# Altium schematic symbol library 8088.SCHLIB: 24 symbols
Pins are listed as number, name and electrical type; pins without a type are passive.

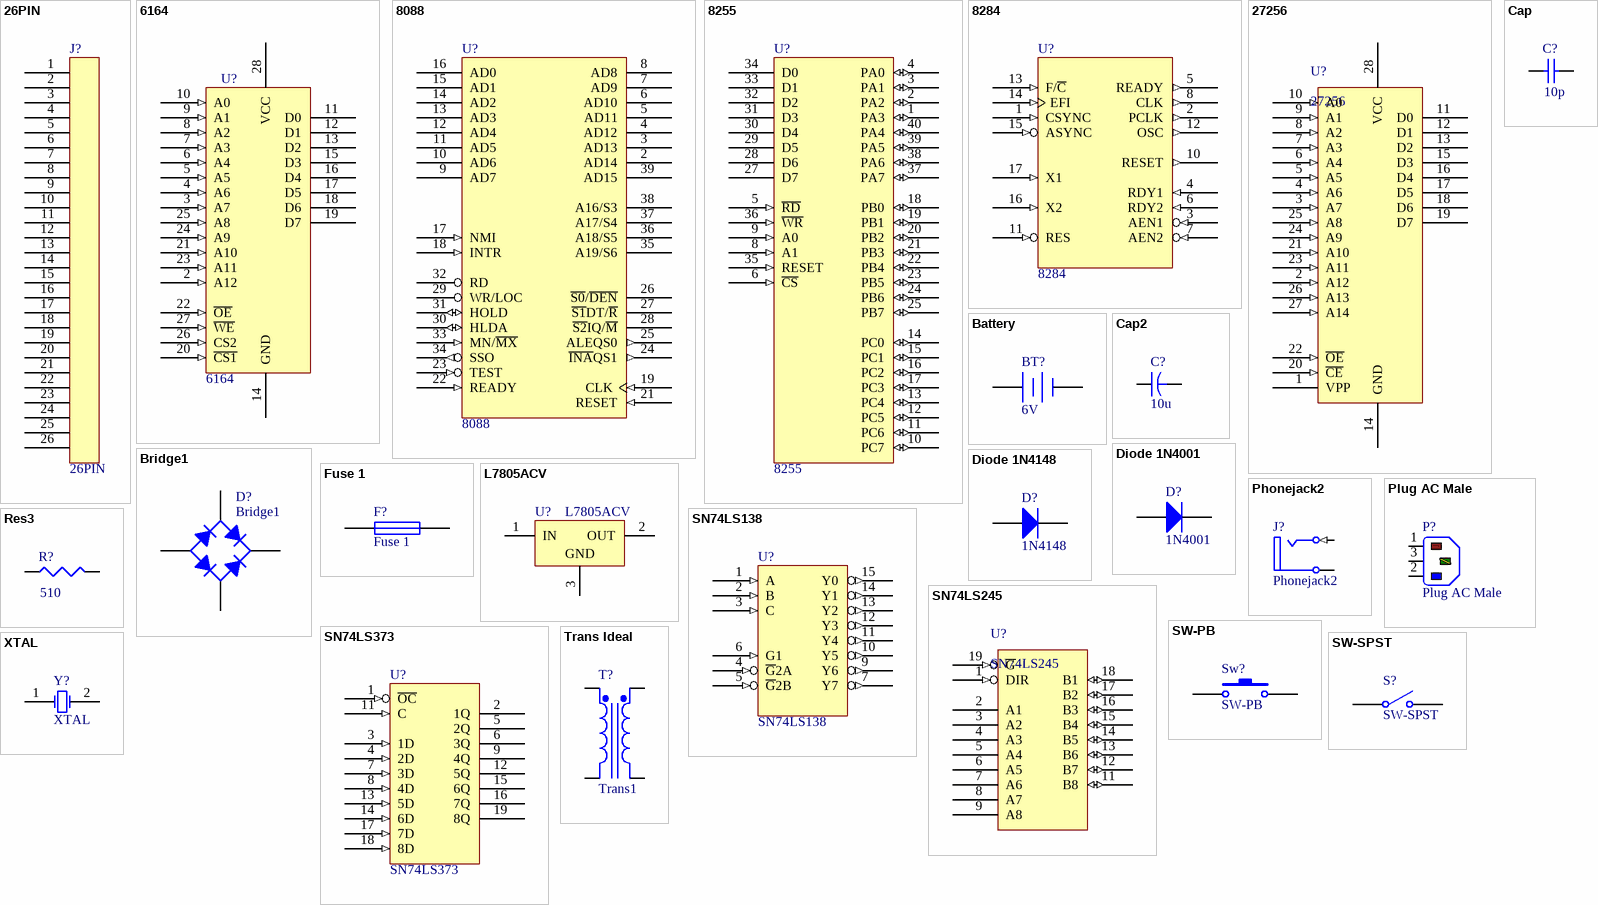
[diagram p0: symbols 26PIN to XTAL]

## 26PIN
designator J?
footprint IDC26 (Footprint not found)
pins: 1, 2, 3, 4, 5, 6, 7, 8, 9, 10, 11, 12, 13, 14, 15, 16, 17, 18, 19, 20, 21, 22, 23, 24, 25, 26

## 6164
designator U?
footprint DIP28 (Footprint not found)
pins: 2 A12 (in), 3 A7 (in), 4 A6 (in), 5 A5 (in), 6 A4 (in), 7 A3 (in), 8 A2 (in), 9 A1 (in), 10 A0 (in), 11 D0 (hiz), 12 D1 (hiz), 13 D2 (hiz), 14 GND, 15 D3 (hiz), 16 D4 (hiz), 17 D5 (hiz), 18 D6 (hiz), 19 D7 (hiz), 20 ~{CS1} (in), 21 A10 (in), 22 ~{OE} (in), 23 A11 (in), 24 A9 (in), 25 A8 (in), 26 CS2 (in), 27 ~{WE} (in), 28 VCC

## 8088
designator U?
footprint DIP40 (Footprint not found)
pins: 1 GND (power) hidden to GND, 2 AD14 (hiz), 3 AD13 (hiz), 4 AD12 (hiz), 5 AD11 (hiz), 6 AD10 (hiz), 7 AD9 (hiz), 8 AD8 (hiz), 9 AD7 (hiz), 10 AD6 (hiz), 11 AD5 (hiz), 12 AD4 (hiz), 13 AD3 (hiz), 14 AD2 (hiz), 15 AD1 (hiz), 16 AD0 (hiz), 17 NMI (in), 18 INTR (in), 19 CLK (in), 20 GND (power) hidden to GND, 21 RESET (in), 22 READY (in), 23 TEST (in), 24 ~{INA}QS1 (out), 25 ALEQS0 (out), 26 ~{S0}/~{DEN} (hiz), 27 ~{S1}DT/~{R} (hiz), 28 ~{S2}IQ/~{M} (hiz), 29 WR/LOC (hiz), 30 HLDA (io), 31 HOLD (io), 32 RD (hiz), 33 MN/~{MX} (in), 34 SSO (out), 35 A19/S6 (hiz), 36 A18/S5 (hiz), 37 A17/S4 (hiz), 38 A16/S3 (hiz), 39 AD15 (hiz), 40 VCC (power) hidden to VCC

## 8255
designator U?
footprint DIP40 (Footprint not found)
pins: 1 PA3 (io), 2 PA2 (io), 3 PA1 (io), 4 PA0 (io), 5 ~{RD} (in), 6 ~{CS} (in), 7 GND (power) hidden to GND, 8 A1 (in), 9 A0 (in), 10 PC7 (io), 11 PC6 (io), 12 PC5 (io), 13 PC4 (io), 14 PC0 (io), 15 PC1 (io), 16 PC2 (io), 17 PC3 (io), 18 PB0 (io), 19 PB1 (io), 20 PB2 (io), 21 PB3 (io), 22 PB4 (io), 23 PB5 (io), 24 PB6 (io), 25 PB7 (io), 26 VCC (power) hidden to VCC, 27 D7 (hiz), 28 D6 (hiz), 29 D5 (hiz), 30 D4 (hiz), 31 D3 (hiz), 32 D2 (hiz), 33 D1 (hiz), 34 D0 (hiz), 35 RESET (in), 36 ~{WR} (in), 37 PA7 (io), 38 PA6 (io), 39 PA5 (io), 40 PA4 (io)

## 8284
designator U?
footprint DIP18 (Footprint not found)
pins: 1 CSYNC (in), 2 PCLK (out), 3 AEN1 (in), 4 RDY1 (in), 5 READY (out), 6 RDY2 (in), 7 AEN2 (in), 8 CLK (out), 9 GND (power) hidden to GND, 10 RESET (out), 11 RES (in), 12 OSC (out), 13 F/~{C} (in), 14 EFI (in), 15 ASYNC (in), 16 X2 (in), 17 X1 (in), 18 VCC (power) hidden to VCC

## 27256
designator U?
footprint DIP28 (Footprint not found)
pins: 1 VPP (power), 2 A12 (in), 3 A7 (in), 4 A6 (in), 5 A5 (in), 6 A4 (in), 7 A3 (in), 8 A2 (in), 9 A1 (in), 10 A0 (in), 11 D0 (hiz), 12 D1 (hiz), 13 D2 (hiz), 14 GND (power), 15 D3 (hiz), 16 D4 (hiz), 17 D5 (hiz), 18 D6 (hiz), 19 D7 (hiz), 20 ~{CE} (in), 21 A10 (in), 22 ~{OE} (in), 23 A11 (in), 24 A9 (in), 25 A8 (in), 26 A13 (in), 27 A14 (in), 28 VCC (power)

## Battery
designator BT?, comment 6V
Multicell Battery; Published: 24-Mar-1999; LatestRevisionDate: 17-Jul-2002; LatestRevisionNote: Re-released for DXP Platform.; PackageReference: BAT-2; Publisher: Altium Limited
footprint BAT-2 (Multicell Battery; 2 Leads)
pins: 1 +, 2 -

## Bridge1
designator D?
Full Wave Diode Bridge; Published: 8-Jun-2000; LatestRevisionDate: 17-Jul-2002; LatestRevisionNote: Re-released for DXP Platform.; PackageReference: D-38; Publisher: Altium Limited
footprint D-38 (Bridge Rectifier; 4 Terminals; Body 9.4 x 9.4 mm (typ); Pitch 5.08 mm)
simulation model BRIDGE (Spice Subcircuit)
pins: 1 A, 2 C, 3 K, 4 C

## Cap
designator C?  value 10p  (hidden comment: Cap)
Capacitor; Published: 8-Jun-2000; LatestRevisionDate: 17-Jul-2002; LatestRevisionNote: Re-released for DXP Platform.; PackageReference: RAD-0.3; Publisher: Altium Limited
footprint RAD-0.3 (Capacitor; 2 Leads)
footprint VP32-3.2 (Capacitor, Ceramic, Thru-Hole, Dipped Radial; Body 5.1 x 3.2 mm (WxT) Pin Spacing 2.54 mm (typ))
footprint VP45-3.2 (Capacitor, Ceramic, Thru-Hole, Dipped Radial; Body 7.8 x 3.2 mm (WxT) Pin Spacing 5.08 mm (typ))
simulation model CAP (Capacitor)
signal-integrity model Cap
pins: 1, 2

## Cap2
designator C?  value 10u  (hidden comment: Cap2)
Capacitor; Published: 23-Sep-2002; PackageReference: CAPR5-4X5; Publisher: Altium Limited
footprint CAPR5-4X5 (Capacitor; 2 Leads)
simulation model CAP (Capacitor)
signal-integrity model Cap
pins: 1, 2

## Diode 1N4001
designator D?, comment 1N4001
1 Amp General Purpose Rectifier; Published: 8-Jun-2000; LatestRevisionDate: 17-Jul-2002; LatestRevisionNote: Re-released for DXP Platform.; DatasheetDocument: 1998; PackageDocument: Aug-1999; PackageReference: DO-41; Publisher: Altium Limited; Code_JEDEC: DO-204-AL; ComponentLink1Description: Manufacturer Link; ComponentLink1URL: http://www.fairchildsemi.com/; ComponentLink2Description: Datasheet; ComponentLink2URL: http://www.fairchildsemi.com/ds/1N%2F1N4001.pdf
footprint DO-41 (Diode, Axial; Body 5.2 x 2.7 mm (LxDia. max), Lead Dia. 0.86 mm (max))
simulation model 1N4001 (DIODE)
signal-integrity model 1N4001
pins: 1 A, 2 K

## Diode 1N4148
designator D?, comment 1N4148
High Conductance Fast Diode; Published: 8-Jun-2000; LatestRevisionDate: 17-Jul-2002; LatestRevisionNote: Re-released for DXP Platform.; DatasheetDocument: 1997; PackageReference: DO-35; Publisher: Altium Limited; Code_JEDEC: DO-204-AH; ComponentLink1Description: Manufacturer Link; ComponentLink1URL: http://www.fairchildsemi.com/; ComponentLink2Description: Datasheet; ComponentLink2URL: http://www.fairchildsemi.com/ds/1N%2F1N4148.pdf
footprint DO-35 (Diode, Axial; Body 3.8 x 1.9 mm (LxDia. max), Lead Dia. 0.53 mm (max))
simulation model 1N4148 (DIODE)
signal-integrity model 1N4148
pins: 1 A, 2 K

## Fuse 1
designator F?
Fuse; Published: 8-Jun-2000; LatestRevisionDate: 17-Jul-2002; LatestRevisionNote: Re-released for DXP Platform.; PackageReference: PIN-W2/E2.8; Publisher: Altium Limited
footprint PIN-W2/E2.8 (Fuse; 2 Leads)
simulation model FUSE (Spice Subcircuit)
pins: 1, 2

## L7805ACV
designator U?
Precision 1A Regulator; Note: Tab is connected to pin 3 (GND).; Published: 24-Aug-2001; LatestRevisionDate: 17-Jul-2002; LatestRevisionNote: Re-released for DXP Platform.; DatasheetVersion: Nov-1999; PackageVersion: Jun-1998; PackageReference: TO220ABN; Publisher: Altium Limited; PackageDescription: TO, Thru-Hole, Vertical, Heatsink Mounted; 3 In-Line Leads; Pitch 2.54 mm; Pin sequence 1, 3, 2; ComponentLink1Description: Manufacturer Link; ComponentLink1URL: http://www.st.com/; ComponentLink2Description: Datasheet; ComponentLink2URL: http://www.st.com/stonline/products/literature/ds/2144/l7805ab.pdf
footprint TO220ABN (TO, Thru-Hole, Vertical, Heatsink Mounted; 3 In-Line Leads; Pitch 2.54 mm; Pin sequence 1, 3, 2)
pins: 1 IN (power), 2 OUT (power), 3 GND (power)

## Phonejack2
designator J?
Jack Socket, 1/4" [6.5mm], Thru-Hole, Vertical, 2-Conductor Open Circuit; PackageDocument: 2003; PCB_Layout: Complies with manufacturer's recommendation.; DrillAndSlotSize: Corresponds to nominal value.; LatestRevisionDate: 15-Jul-2004; LatestRevisionNote: Component Replaced.; DatasheetDocument: 2003; PackageReference: S1VS_SNS; Publisher: Altium Limited; ComponentLink1Description: Manufacturer Link; ComponentLink1URL: http://www.cliffuk.co.uk/
footprint JACK/6-V2 (Connector; Jack Socket, 1/4" [6.5mm], Thru-Hole, 2 Position, Vertical, Body 15.7 x 15.7 x 31 mm (WxTxH))
signal-integrity model JACK Socket
pins: 1 T (in) "Tip", 5 S (power) "Sleeve (Ground)"

## Plug AC Male
designator P?
IEC Mains Power Inlet, EN60 320-1 C14 Class I Cold Condition, PC Flange Rear Mount, Chassis Plug; PackageDocument: ver.80, 15-Sep-2003; MaximumRating: 10A, 250V a.c. (UL & CSA 15A, 250V a.c.); MountingFixtures: Not drawn on schematic symbol.; PCB_Layout: Complies with manufacturer's recommendation.; DrillSize: Corresponds to nominal value.; Note: IEC Color Scheme employed for L, N and E.; Published: 15-Jul-2004; LatestRevisionDate: 15-Jul-2004; LatestRevisionNote: Component Replaced.; DatasheetDocument: ver.80, 15-Sep-2003; PackageReference: PX0580/PC; Publisher: Altium Limited; Terminations: P.C. Spills; ComponentLink1Description: Manufacturer Link; ComponentLink1URL: http://www.bulgin.co.uk/
footprint IEC9.14-2H3 (Mains Power Inlet, IEC60 320-1 C14, PC Flange Rear Mount)
pins: 1 L (power) "Live (Active)", 2 N (power) "Neutral", 3 E (power) "Earth (Ground)"

## Res3
designator R?  value 510  (hidden comment: Res3)
Resistor; Published: 8-Jun-2000; LatestRevisionDate: 04-Mar-2005; LatestRevisionNote: PCB Footprint replaced.; PackageReference: J1-0603; Publisher: Altium Limited
footprint J1-0603 (Chip Resistor; Body 1.6 x 0.8 mm (LxW typ))
footprint 3225[1210] (Chip Resistor; Body 3.2 x 2.5 mm (LxW typ))
footprint 5025[2010] (Chip Resistor; Body 5.0 x 2.5 mm (LxW typ))
footprint 6332[2512] (Chip Resistor; Body 6.3 x 3.2 mm (LxW typ))
simulation model RESISTOR (Resistor)
signal-integrity model Res
pins: 1, 2

## SN74LS138
designator U?
footprint SOIC16 (Footprint not found)
pins: 1 A (in), 2 B (in), 3 C (in), 4 ~{G}2A (in), 5 ~{G}2B (in), 6 G1 (in), 7 Y7 (out), 8 GND (power) hidden to GND, 9 Y6 (out), 10 Y5 (out), 11 Y4 (out), 12 Y3 (out), 13 Y2 (out), 14 Y1 (out), 15 Y0 (out), 16 VCC (power) hidden to VCC

## SN74LS245
designator U?
footprint SOICW20 (Footprint not found)
pins: 1 DIR (in), 2 A1 (hiz), 3 A2 (hiz), 4 A3 (hiz), 5 A4 (hiz), 6 A5 (hiz), 7 A6 (hiz), 8 A7 (hiz), 9 A8 (hiz), 10 GND (power) hidden to GND, 11 B8 (io), 12 B7 (io), 13 B6 (io), 14 B5 (io), 15 B4 (io), 16 B3 (io), 17 B2 (io), 18 B1 (io), 19 ~{G} (in), 20 VCC (power) hidden to VCC

## SN74LS373
designator U?
footprint DIP20 (Footprint not found)
pins: 1 ~{OC} (in), 2 1Q (hiz), 3 1D (in), 4 2D (in), 5 2Q (hiz), 6 3Q (hiz), 7 3D (in), 8 4D (in), 9 4Q (hiz), 10 GND (power) hidden to GND, 11 C (in), 12 5Q (hiz), 13 5D (in), 14 6D (in), 15 6Q (hiz), 16 7Q (hiz), 17 7D (in), 18 8D (in), 19 8Q (hiz), 20 VCC (power) hidden to VCC

## SW-PB
designator Sw?
Switch; Published: 24-Mar-1999; LatestRevisionDate: 17-Jul-2002; LatestRevisionNote: Re-released for DXP Platform.; PackageReference: SPST-2; Publisher: Altium Limited
footprint SPST-2 (Switch; 2 Leads)
pins: 1, 2

## SW-SPST
designator S?
Single-Pole, Single-Throw Switch; Published: 24-Mar-1999; LatestRevisionDate: 17-Jul-2002; LatestRevisionNote: Re-released for DXP Platform.; PackageReference: SPST-2; Publisher: Altium Limited
footprint SPST-2 (Single-Pole, Single-Throw Switch; 2 Leads)
pins: 1 COMMON, 2 NO

## Trans Ideal
designator T?, comment Trans1
Transformer (Ideal); Published: 8-Jun-2000; LatestRevisionDate: 17-Jul-2002; LatestRevisionNote: Re-released for DXP Platform.; PackageReference: TRF_4; Publisher: Altium Limited
footprint TRF_4 (Transformer (Ideal); 4 Leads)
simulation model IDEALTRANS (Spice Subcircuit)
pins: 1 Pri+, 2 Pri-, 3 Sec+, 4 Sec-

## XTAL
designator Y?
Crystal Oscillator; Published: 8-Jun-2000; LatestRevisionDate: 17-Jul-2002; LatestRevisionNote: Re-released for DXP Platform.; PackageReference: R38; Publisher: Altium Limited
footprint R38 (Crystal, Thru-Hole; 2 Leads; Body 3.1 x 8.2 mm (Dia.xH))
simulation model XTAL (Spice Subcircuit)
pins: 1 OSC1, 2 OSC2